# Altium schematic symbol library RTL8367N-VB-CG.SchLib: 1 symbol
Pins are listed as number, name and electrical type; pins without a type are passive.

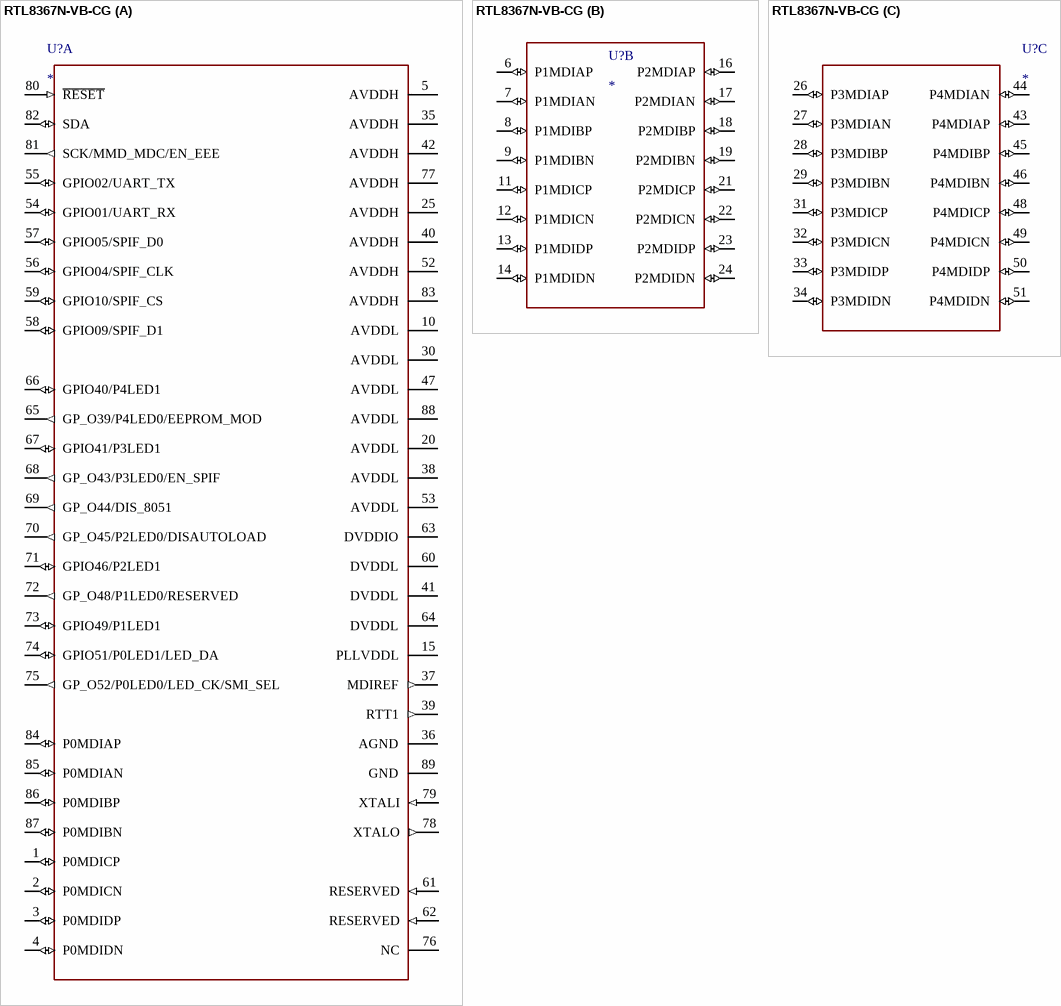
[diagram p0: symbol RTL8367N-VB-CG]

## RTL8367N-VB-CG
designator U?
MF: Realtek; MP: RTL8367N-VB-CG; Package: None; Price: None; Value: *; Availability: Unavailable
footprint QFN40P1000X1000X90-89N
part A pins: 1 P0MDICP (io), 2 P0MDICN (io), 3 P0MDIDP (io), 4 P0MDIDN (io), 5 AVDDH (power), 10 AVDDL (power), 15 PLLVDDL (power), 20 AVDDL (power), 25 AVDDH (power), 30 AVDDL (power), 35 AVDDH (power), 36 AGND (power), 37 MDIREF (out), 38 AVDDL (power), 39 RTT1 (out), 40 AVDDH (power), 41 DVDDL (power), 42 AVDDH (power), 47 AVDDL (power), 52 AVDDH (power), 53 AVDDL (power), 54 GPIO01/UART_RX (io), 55 GPIO02/UART_TX (io), 56 GPIO04/SPIF_CLK (io), 57 GPIO05/SPIF_D0 (io), 58 GPIO09/SPIF_D1 (io), 59 GPIO10/SPIF_CS (io), 60 DVDDL (power), 61 RESERVED (in), 62 RESERVED (in), 63 DVDDIO (power), 64 DVDDL (power), 65 GP_O39/P4LED0/EEPROM_MOD (out), 66 GPIO40/P4LED1 (io), 67 GPIO41/P3LED1 (io), 68 GP_O43/P3LED0/EN_SPIF (out), 69 GP_O44/DIS_8051 (out), 70 GP_O45/P2LED0/DISAUTOLOAD (out), 71 GPIO46/P2LED1 (io), 72 GP_O48/P1LED0/RESERVED (out), 73 GPIO49/P1LED1 (io), 74 GPIO51/P0LED1/LED_DA (io), 75 GP_O52/P0LED0/LED_CK/SMI_SEL (out), 76 NC, 77 AVDDH (power), 78 XTALO (out), 79 XTALI (in), 80 ~{RESET} (in), 81 SCK/MMD_MDC/EN_EEE (out), 82 SDA (io), 83 AVDDH (power), 84 P0MDIAP (io), 85 P0MDIAN (io), 86 P0MDIBP (io), 87 P0MDIBN (io), 88 AVDDL (power), 89 GND (power)
part B pins: 6 P1MDIAP (io), 7 P1MDIAN (io), 8 P1MDIBP (io), 9 P1MDIBN (io), 11 P1MDICP (io), 12 P1MDICN (io), 13 P1MDIDP (io), 14 P1MDIDN (io), 16 P2MDIAP (io), 17 P2MDIAN (io), 18 P2MDIBP (io), 19 P2MDIBN (io), 21 P2MDICP (io), 22 P2MDICN (io), 23 P2MDIDP (io), 24 P2MDIDN (io)
part C pins: 26 P3MDIAP (io), 27 P3MDIAN (io), 28 P3MDIBP (io), 29 P3MDIBN (io), 31 P3MDICP (io), 32 P3MDICN (io), 33 P3MDIDP (io), 34 P3MDIDN (io), 43 P4MDIAP (io), 44 P4MDIAN (io), 45 P4MDIBP (io), 46 P4MDIBN (io), 48 P4MDICP (io), 49 P4MDICN (io), 50 P4MDIDP (io), 51 P4MDIDN (io)